# Altium footprint library MP3V5050.PcbLib: 2 footprints
Each footprint in its own frame and in the unit in brackets; x right, y up, seen from the top. Pads: shape width x height; smd on the part's side, far side on the other; paste and mask are expansions set on the pad; w line width, h text height; cw(c..) or ccw(c..) is an arc to the next point about the centre after c.
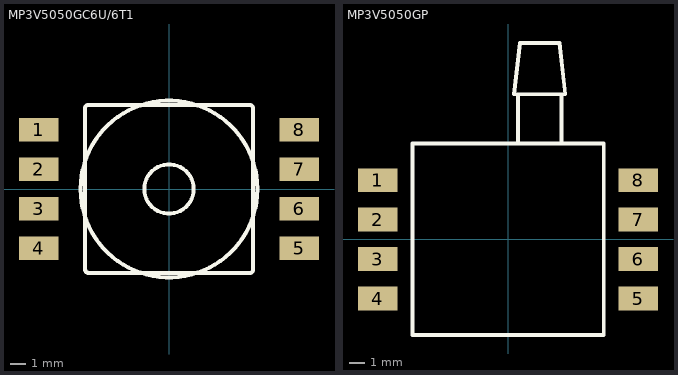
[diagram p0: the footprints below, top view; thin cyan lines are the x and y axes]

## MP3V5050GC6U/6T1 [mil] "MP3V5050GC6U/6T1 CASE 482A-01 Freescale Semiconductor"
height 520
pads (8):
  rect 100x60 smd: 1(-330,150) 2(-330,50) 3(-330,-50) 4(-330,-150) 5(330,-150) 6(330,-50) 7(330,50) 8(330,150)
Top Overlay:
  circle w10: c0,0 r62.5
  circle w10: c0,0 r224
  lines w10: -212.5,-203.96 ccw(c-203.96,-203.96) -203.96,-212.5 205,-212.5 ccw(c205,-205) 212.5,-205 212.5,205 ccw(c205,205) 205,212.5 -205,212.5 ccw(c-205,205) -212.5,205 -212.5,-203.96

## MP3V5050GP [mil] "MP3V5050-CASE 1369-01 Freescale Semiconductor"
height 330
pads (8):
  rect 100x60 smd: 1(-330,150) 2(-330,50) 3(-330,-50) 4(-330,-150) 5(330,-150) 6(330,-50) 7(330,50) 8(330,150)
Top Overlay:
  lines w10: 25,242.5 25,367.5 ; 135,242.5 135,367.5 ; -242.5,-242.5 242.5,-242.5 242.5,242.5 -242.5,242.5 -242.5,-242.5 ; 15,367.5 30,497.5 130,497.5 145,367.5 15,367.5